# EAGLE library part WE-LPF_0805 (library Wurth_Elektronik_Passive_rev16c)
Multilayer Chip Low-Pass Filter Characteristics Operating temperature: –40 °C to +85 °C Power capacity up to 3 W Low insertion loss and high attenuation in the stop-band Applications RF applications Wireless communication systems like DECT, PACS, PHS, GSM, WLAN, Bluetooth … <http://katalog.we-online.de/media/images/eisos/RfLPF_pf2.jpg> Details see: http://katalog.we-online.de/en/pbs/WE-LPF? Updated by Dan Xu 2014-07-08 2014 (C) Wurth Elektronik
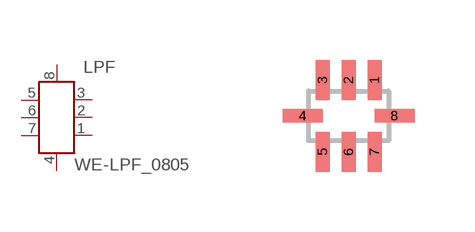
[diagram p15: symbol with the pads of WE-LPF_0805; footprint WE-LPF_0805]

Designator prefix LPF

## WE-LPF_0805  [WE-LPF_0805]
1  GND  pwr
2  NC  nc
3  GND  pwr
4  OUT  out
5  GND  pwr
6  NC  nc
7  GND  pwr
8  IN  in

## Footprint WE-LPF_0805 (pad centres in mm)
Multilayer Chip Low-Pass Filters WE-LPF
smd 0.35 x 1: 1 0.65,0.9; 2 0,0.9; 3 -0.65,0.9; 5 -0.65,-0.9; 6 0,-0.9; 7 0.65,-0.9
smd 1 x 0.35: 4 -1.15,0; 8 1.15,0